# Altium schematic symbol library 215297-4.SchLib: 1 symbol
Pins are listed as number, name and electrical type; pins without a type are passive.

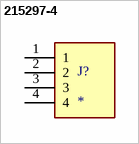
[diagram p0: symbol 215297-4]

## 215297-4
designator J?
MF: {'manufacturer': u'TE Connectivity'}; MP: 215297-4; Package: None; Price: None; Availability: Unavailable; Value: *
footprint TE_215297-4
pins: 1, 2, 3, 4